# EAGLE library part MAX2680AUT+T (library ruark2)
RF Mixer IC Cellular, ISM, PCS, WLL Down Converter 400MHz ~ 2.5GHz SOT-23-6
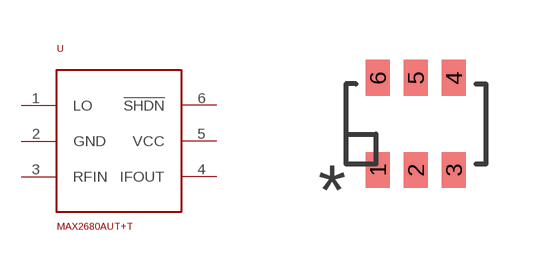
[diagram p63: symbol with the pads of SOT23-6; footprint SOT23-6]

Designator prefix U

## MAX2680AUT+T (PARTNO: MAX2680AUT+T-ND; VALUE: MAX2680)  [SOT23-6]
1  LO
2  GND
3  RFIN
4  IFOUT
5  VCC
6  !SHDN

## Footprint SOT23-6 (pad centres in mm)
smd 0.6 x 0.9: 1 -0.95,-1.15; 2 0,-1.15; 3 0.95,-1.15; 4 0.95,1.15; 5 0,1.15; 6 -0.95,1.15